# EAGLE library part TPS61200 (library Supernode-PowerIC)
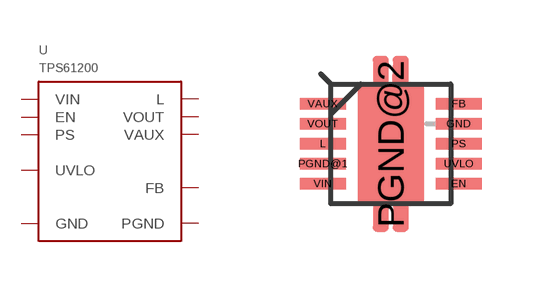
[diagram p0: symbol with the pads of SON-10; footprint SON-10]

Designator prefix U

## TPS61200  [SON-10]
EN  EN
FB  FB
GND  GND
L  L
PGND@1  PGND
PGND@2  PGND
PS  PS
UVLO  UVLO
VAUX  VAUX
VIN  VIN
VOUT  VOUT

## Footprint SON-10 (pad centres in mm)
smd 1.15 x 0.28: EN 1.7,-1; FB 1.7,1; GND 1.7,0.5; L -1.7,0; PGND@1 -1.7,-0.5; PS 1.7,0; UVLO 1.7,-0.5; VAUX -1.7,1; VIN -1.7,-1; VOUT -1.7,0.5
smd 1.65 x 3: PGND@2 0,0